# Altium schematic symbol library Resistor.Schlib: 5 symbols
Pins are listed as number, name and electrical type; pins without a type are passive.

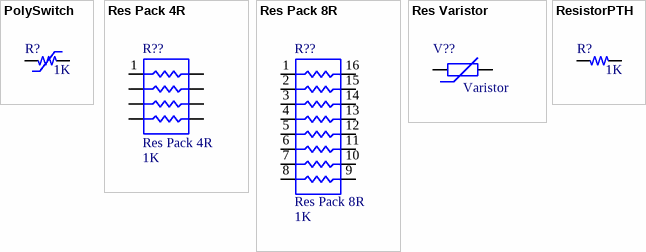
[diagram p0: symbols PolySwitch to ResistorPTH]

## PolySwitch
designator R?, comment 1K
PolySwitch
footprint RAD-0.4
pins: 1, 2

## Res Pack 4R
designator R??  value 1K
Isolated Resistor Network; Published: 24-Mar-1999; LatestRevisionDate: 17-Jul-2002; LatestRevisionNote: Re-released for DXP Platform.; PackageReference: SO-16; Publisher: Altium Limited
footprint SO-16 (Small Outline; 16 Leads; Body Width 5.6 mm; Pitch 1.27 mm)
simulation model respack_8 (Spice Subcircuit)
pins: 1, 2, 3, 4, 5, 6, 7, 8

## Res Pack 8R
designator R??  value 1K
Isolated Resistor Network; Published: 24-Mar-1999; LatestRevisionDate: 17-Jul-2002; LatestRevisionNote: Re-released for DXP Platform.; PackageReference: SO-16; Publisher: Altium Limited
footprint SO-16 (Small Outline; 16 Leads; Body Width 5.6 mm; Pitch 1.27 mm)
simulation model respack_8 (Spice Subcircuit)
pins: 1, 2, 3, 4, 5, 6, 7, 8, 9, 10, 11, 12, 13, 14, 15, 16

## Res Varistor
designator V??, comment Varistor
Varistor (Voltage-Sensitive Resistor); Published: 24-Mar-1999; LatestRevisionDate: 04-Mar-2005; LatestRevisionNote: PCB Footprint replaced.; PackageReference: 6-0805; Publisher: Altium Limited
footprint RAD-0.4 - Varistor
footprint RAD-0.4 - Varistor Horizontal
pins: 1, 2

## ResistorPTH
designator R?, comment 1K
Resistor
footprint AXIAL-04
footprint AXIAL-0.3 (Resistor; 2 Leads)
footprint AXIAL-0.9 (Magnetic-Core Inductor; 2 Leads)
footprint AXIAL-0.8
pins: 1, 2